# Altium schematic symbol library ATSAMA5D27C-LD2G-CU.SchLib: 1 symbol
Pins are listed as number, name and electrical type; pins without a type are passive.

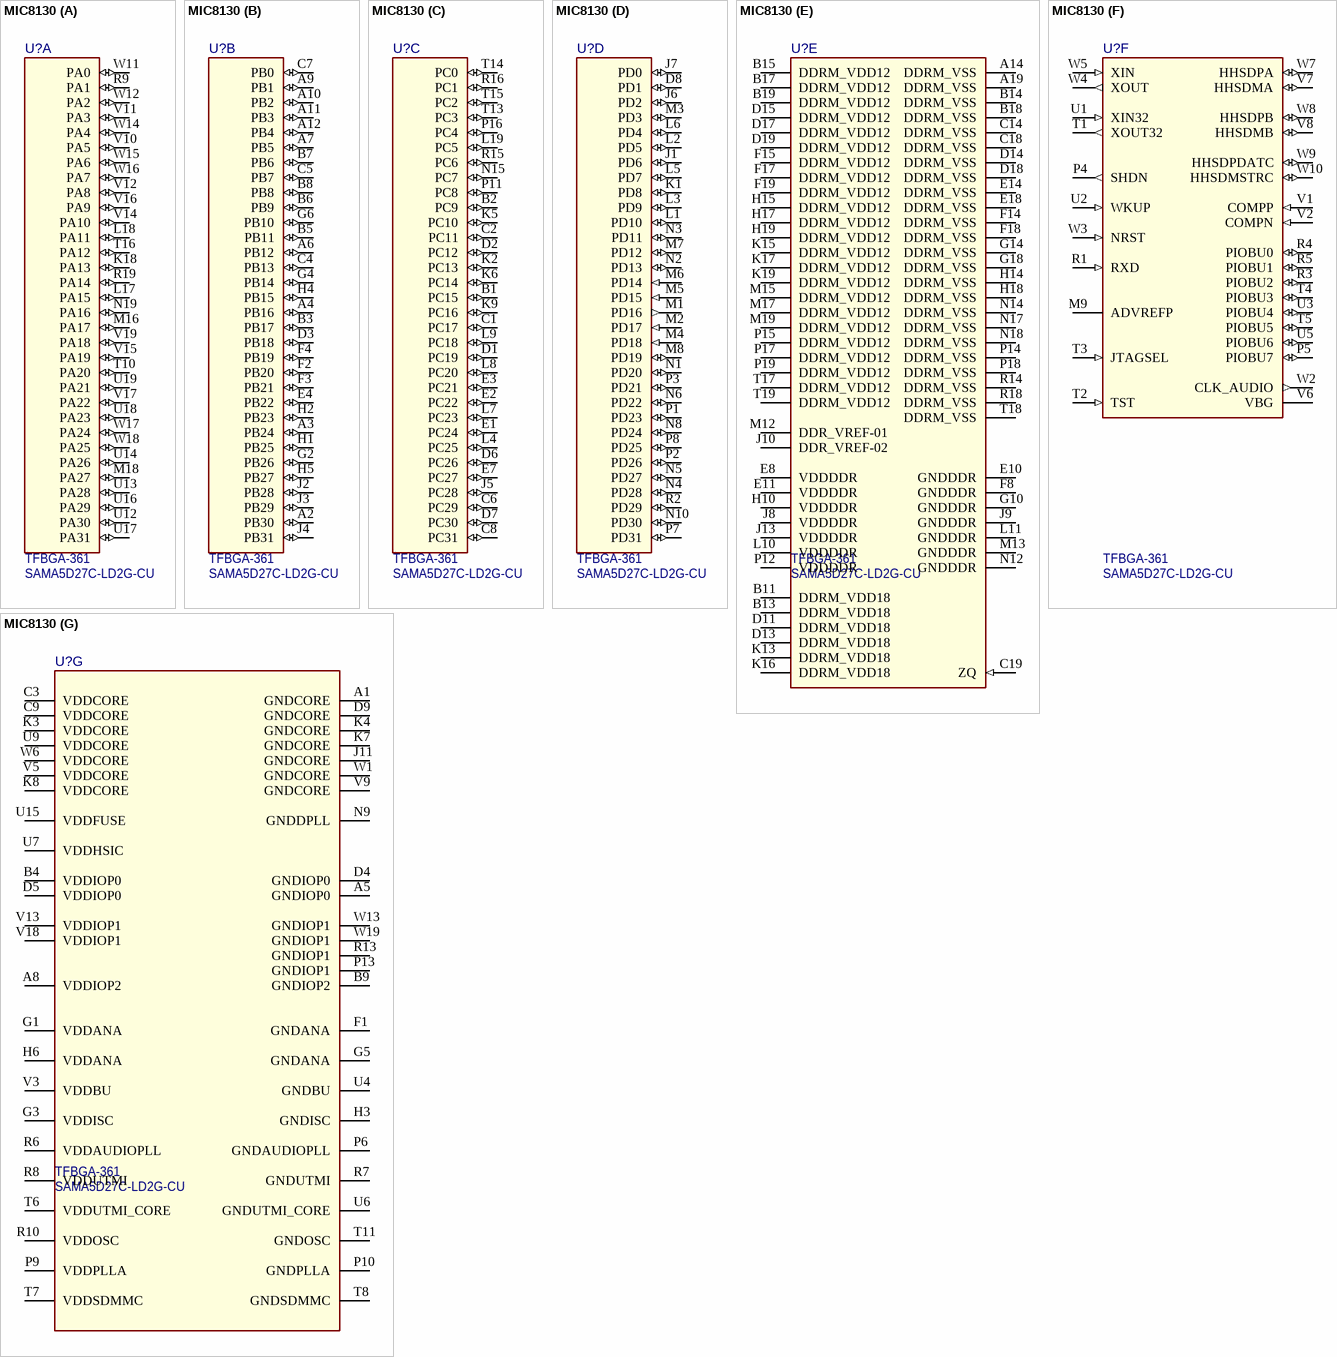
[diagram p0: symbol MIC8130]

## MIC8130
designator U?, comment SAMA5D27C-LD2G-CU  PackageType: TFBGA-361
SAMA5D2 MPU with 2Gb LPDDR2 x32 TFBGA-361; Manufacturer 1: Microchip Technology / Atmel; Manufacturer Part Number 1: ATSAMA5D27C-LD2G-CU; MCHP-ID: MIC8130; Value: SAMA5D2-LPDDR2-SIP-BGA-361; Description_: MCHP MCU SiP 32-BIT 500MHz 160kB 128kB 2Gbit ATSAMA5D27C-LD2G-CU 361-TFBGA; MAPS Description: CORTEX-A5 MPU,BGA,IND TEMP,2Gb LPDDR2, MRLC; Dev Tools Status: Design; Owner: Dragos Danaila; MPC: 3410H7DYBR01; LeadContent: Pb-FREE; TempRange: -40C to +85C; Stage: REL; PackageWidth: 16x16x1.2mm; PackingMedia: TRAY; ForceMinOrderQtyMult: True; MinOrderQty: 84; LeadCount: 361; Program Memory KBytes: 0; Ram: 131072; IOPins: 128; MaxSpeed: 500; OscillatorMHz: 32kHz, 12MHz; ADC Channels: 12; USART: 10; SPI: 7; CAN: 2; USBChannels: 3; Input Capture: 6; mtrlcntrlpwmchannels: 8; DigitalTimerQty_16bit: 4; Populated: YES; Symbol: SAMA5D2-LPDDR2-SIP-BGA-361; Type: 32-Bit MPU; Status: MCL Design; Revision: D; Category: MCHP-Microcontroller; ComponentLink1URL: http://www.microchip.com/wwwproducts/ATSAMA5D27C-LD2G; ComponentLink1Description: SVN Datasheet; ComponentLink2URL: C:\ALTIUM_WORK\00001_MCHP-CDB\Datasheets\SAMA5D2-Plus-DDR2-LPDDR2-System-in-Package-(SIP)-60001484b.pdf; ComponentLink2Description: Local Datasheet; ComponentLink3URL: C:\ALTIUM_WORK\00001_MCHP-CDB\Library\LibraryRefs\SAMA5D2-LPDDR2-SIP-BGA-361.SchLib; ComponentLink3Description: Open Symbol; ComponentLink4URL: C:\ALTIUM_WORK\00001_MCHP-CDB\Library\Footprints\TFBGA-361-16X16.PcbLib; ComponentLink4Description: Open Footprint; ComponentLink5Description: Open Footprint 2; ComponentLink6Description: Open Footprint 3; ComponentLink7Description: Open Footprint 4; Supplier 1: Digi-Key; Supplier Part Number 1: ATSAMA5D27C-LD2G-CU-ND; IntroductionDate: 2019-02-04; Family: SAMA5; Program Memory KWords: 0; ADCBit: 12; I2C: 7; PWM Channels: 6; QEI Channels: 2; DigitalTimerQty_32bit: 6; Quantity Override: 1
footprint BGA361_16x16_MCH
part A pins: K18 PA13 (io), L17 PA15 (io), L18 PA11 (io), M16 PA17 (io), M18 PA27 (io), N19 PA16 (io), R9 PA1 (io), R19 PA14 (io), T10 PA20 (io), T16 PA12 (io), U12 PA30 (io), U13 PA28 (io), U14 PA26 (io), U16 PA29 (io), U17 PA31 (io), U18 PA23 (io), U19 PA21 (io), V10 PA5 (io), V11 PA3 (io), V12 PA8 (io), V14 PA10 (io), V15 PA19 (io), V16 PA9 (io), V17 PA22 (io), V19 PA18 (io), W11 PA0 (io), W12 PA2 (io), W14 PA4 (io), W15 PA6 (io), W16 PA7 (io), W17 PA24 (io), W18 PA25 (io)
part B pins: A2 PB30 (io), A3 PB24 (io), A4 PB16 (io), A6 PB12 (io), A7 PB5 (io), A9 PB1 (io), A10 PB2 (io), A11 PB3 (io), A12 PB4 (io), B3 PB17 (io), B5 PB11 (io), B6 PB9 (io), B7 PB6 (io), B8 PB8 (io), C4 PB13 (io), C5 PB7 (io), C7 PB0 (io), D3 PB18 (io), E4 PB22 (io), F2 PB20 (io), F3 PB21 (io), F4 PB19 (io), G2 PB26 (io), G4 PB14 (io), G6 PB10 (io), H1 PB25 (io), H2 PB23 (io), H4 PB15 (io), H5 PB27 (io), J2 PB28 (io), J3 PB29 (io), J4 PB31 (io)
part C pins: B1 PC15 (io), B2 PC9 (io), C1 PC17 (io), C2 PC11 (io), C6 PC29 (io), C8 PC31 (io), D1 PC19 (io), D2 PC12 (io), D6 PC26 (io), D7 PC30 (io), E1 PC24 (io), E2 PC22 (io), E3 PC21 (io), E7 PC27 (io), J5 PC28 (io), K2 PC13 (io), K5 PC10 (io), K6 PC14 (io), K9 PC16 (io), L4 PC25 (io), L7 PC23 (io), L8 PC20 (io), L9 PC18 (io), L19 PC5 (io), N15 PC7 (io), P11 PC8 (io), P16 PC4 (io), R15 PC6 (io), R16 PC1 (io), T13 PC3 (io), T14 PC0 (io), T15 PC2 (io)
part D pins: D8 PD1 (io), J1 PD6 (io), J6 PD2 (io), J7 PD0 (io), K1 PD8 (io), L1 PD10 (io), L2 PD5 (io), L3 PD9 (io), L5 PD7 (io), L6 PD4 (io), M1 PD16 (out), M2 PD17 (in), M3 PD3 (io), M4 PD18 (in), M5 PD15 (in), M6 PD14 (in), M7 PD12 (io), M8 PD19 (io), N1 PD20 (io), N2 PD13 (io), N3 PD11 (io), N4 PD28 (io), N5 PD27 (io), N6 PD22 (io), N8 PD24 (io), N10 PD30 (io), P1 PD23 (io), P2 PD26 (io), P3 PD21 (io), P7 PD31 (io), P8 PD25 (io), R2 PD29 (io)
part E pins: A14 DDRM_VSS (power), A19 DDRM_VSS (power), B11 DDRM_VDD18 (power), B13 DDRM_VDD18 (power), B14 DDRM_VSS (power), B15 DDRM_VDD12 (power), B17 DDRM_VDD12 (power), B18 DDRM_VSS (power), B19 DDRM_VDD12 (power), C14 DDRM_VSS (power), C18 DDRM_VSS (power), C19 ZQ (in), D11 DDRM_VDD18 (power), D13 DDRM_VDD18 (power), D14 DDRM_VSS (power), D15 DDRM_VDD12 (power), D17 DDRM_VDD12 (power), D18 DDRM_VSS (power), D19 DDRM_VDD12 (power), E8 VDDDDR (power), E10 GNDDDR (power), E11 VDDDDR (power), E14 DDRM_VSS (power), E18 DDRM_VSS (power), F8 GNDDDR (power), F14 DDRM_VSS (power), F15 DDRM_VDD12 (power), F17 DDRM_VDD12 (power), F18 DDRM_VSS (power), F19 DDRM_VDD12 (power), G10 GNDDDR (power), G14 DDRM_VSS (power), G18 DDRM_VSS (power), H10 VDDDDR (power), H14 DDRM_VSS (power), H15 DDRM_VDD12 (power), H17 DDRM_VDD12 (power), H18 DDRM_VSS (power), H19 DDRM_VDD12 (power), J8 VDDDDR (power), J9 GNDDDR (power), J10 DDR_VREF-02 (power), J13 VDDDDR (power), K13 DDRM_VDD18 (power), K15 DDRM_VDD12 (power), K16 DDRM_VDD18 (power), K17 DDRM_VDD12 (power), K19 DDRM_VDD12 (power), L10 VDDDDR (power), L11 GNDDDR (power), M12 DDR_VREF-01 (power), M13 GNDDDR (power), M15 DDRM_VDD12 (power), M17 DDRM_VDD12 (power), M19 DDRM_VDD12 (power), N12 GNDDDR (power), N14 DDRM_VSS (power), N17 DDRM_VSS (power), N18 DDRM_VSS (power), P12 VDDDDR (power), P14 DDRM_VSS (power), P15 DDRM_VDD12 (power), P17 DDRM_VDD12 (power), P18 DDRM_VSS (power), P19 DDRM_VDD12 (power), R14 DDRM_VSS (power), R18 DDRM_VSS (power), T17 DDRM_VDD12 (power), T18 DDRM_VSS (power), T19 DDRM_VDD12 (power)
part F pins: M9 ADVREFP (power), P4 SHDN (out), P5 PIOBU7 (io), R1 RXD (in), R3 PIOBU2 (io), R4 PIOBU0 (io), R5 PIOBU1 (io), T1 XOUT32 (out), T2 TST (in), T3 JTAGSEL (in), T4 PIOBU3 (io), T5 PIOBU5 (io), U1 XIN32 (in), U2 WKUP (in), U3 PIOBU4 (io), U5 PIOBU6 (io), V1 COMPP (in), V2 COMPN (in), V6 VBG (power), V7 HHSDMA (io), V8 HHSDMB (io), W2 CLK_AUDIO (out), W3 NRST (in), W4 XOUT (out), W5 XIN (in), W7 HHSDPA (io), W8 HHSDPB (io), W9 HHSDPDATC (io), W10 HHSDMSTRC (io)
part G pins: A1 GNDCORE (power), A5 GNDIOP0 (power), A8 VDDIOP2 (power), B4 VDDIOP0 (power), B9 GNDIOP2 (power), C3 VDDCORE (power), C9 VDDCORE (power), D4 GNDIOP0 (power), D5 VDDIOP0 (power), D9 GNDCORE (power), F1 GNDANA (power), G1 VDDANA (power), G3 VDDISC (power), G5 GNDANA (power), H3 GNDISC (power), H6 VDDANA (power), J11 GNDCORE (power), K3 VDDCORE (power), K4 GNDCORE (power), K7 GNDCORE (power), K8 VDDCORE (power), N9 GNDDPLL (power), P6 GNDAUDIOPLL (power), P9 VDDPLLA (power), P10 GNDPLLA (power), P13 GNDIOP1 (power), R6 VDDAUDIOPLL (power), R7 GNDUTMI (power), R8 VDDUTMI (power), R10 VDDOSC (power), R13 GNDIOP1 (power), T6 VDDUTMI_CORE (power), T7 VDDSDMMC (power), T8 GNDSDMMC (power), T11 GNDOSC (power), U4 GNDBU (power), U6 GNDUTMI_CORE (power), U7 VDDHSIC (power), U9 VDDCORE (power), U15 VDDFUSE (power), V3 VDDBU (power), V5 VDDCORE (power), V9 GNDCORE (power), V13 VDDIOP1 (power), V18 VDDIOP1 (power), W1 GNDCORE (power), W6 VDDCORE (power), W13 GNDIOP1 (power), W19 GNDIOP1 (power)